# EAGLE library part DF37NC-30DS-0.4V(53) (library My_Library)
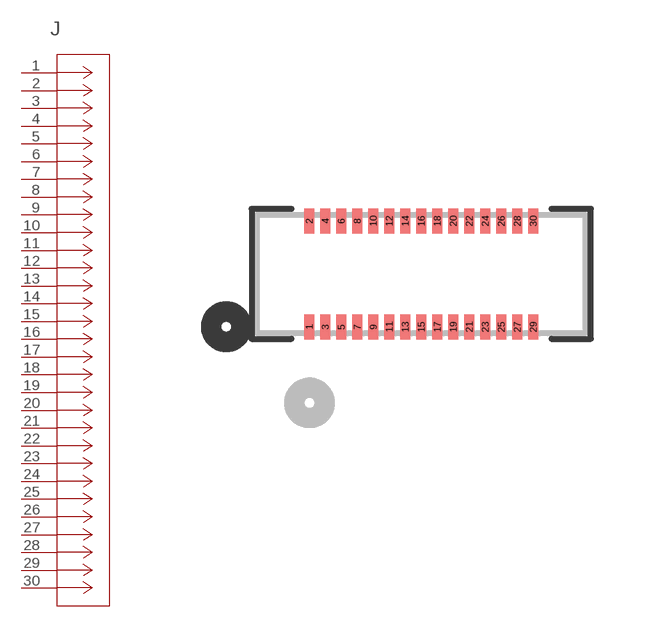
[diagram p26: symbol with the pads of CONN_DF37NC-30DS-0.4V(53)_HIR; footprint CONN_DF37NC-30DS-0.4V(53)_HIR]

Designator prefix J

## DF37NC-30DS-0.4V(53) (COPYRIGHT: Copyright (C) 2024 Ultra Librarian. All rights reserved.; MANUFACTURER_PART_NUMBER: DF37NC-30DS-0.4V(53); MFR_NAME: Hirose)  [CONN_DF37NC-30DS-0.4V(53)_HIR]
1  1  pas
2  2  pas
3  3  pas
4  4  pas
5  5  pas
6  6  pas
7  7  pas
8  8  pas
9  9  pas
10  10  pas
11  11  pas
12  12  pas
13  13  pas
14  14  pas
15  15  pas
16  16  pas
17  17  pas
18  18  pas
19  19  pas
20  20  pas
21  21  pas
22  22  pas
23  23  pas
24  24  pas
25  25  pas
26  26  pas
27  27  pas
28  28  pas
29  29  pas
30  30  pas

## Footprint CONN_DF37NC-30DS-0.4V(53)_HIR (pad centres in mm)
smd 0.254 x 0.635: 1 -2.8,-1.325; 2 -2.8,1.325; 3 -2.4,-1.325; 4 -2.4,1.325; 5 -2,-1.325; 6 -2,1.325; 7 -1.6,-1.325; 8 -1.6,1.325; 9 -1.2,-1.325; 10 -1.2,1.325; 11 -0.8,-1.325; 12 -0.8,1.325; 13 -0.4,-1.325; 14 -0.4,1.325; 15 0,-1.325; 16 0,1.325; 17 0.4,-1.325; 18 0.4,1.325; 19 0.8,-1.325; 20 0.8,1.325; 21 1.2,-1.325; 22 1.2,1.325; 23 1.6,-1.325; 24 1.6,1.325; 25 2,-1.325; 26 2,1.325; 27 2.4,-1.325; 28 2.4,1.325; 29 2.8,-1.325; 30 2.8,1.325